# Altium footprint library Capacitor - Electrolytic.PcbLib: 177 footprints (part 2 of 12)
Each footprint in its own frame and in the unit in brackets; x right, y up, seen from the top. Pads: shape width x height; smd on the part's side, far side on the other; paste and mask are expansions set on the pad; w line width, h text height; cw(c..) or ccw(c..) is an arc to the next point about the centre after c.
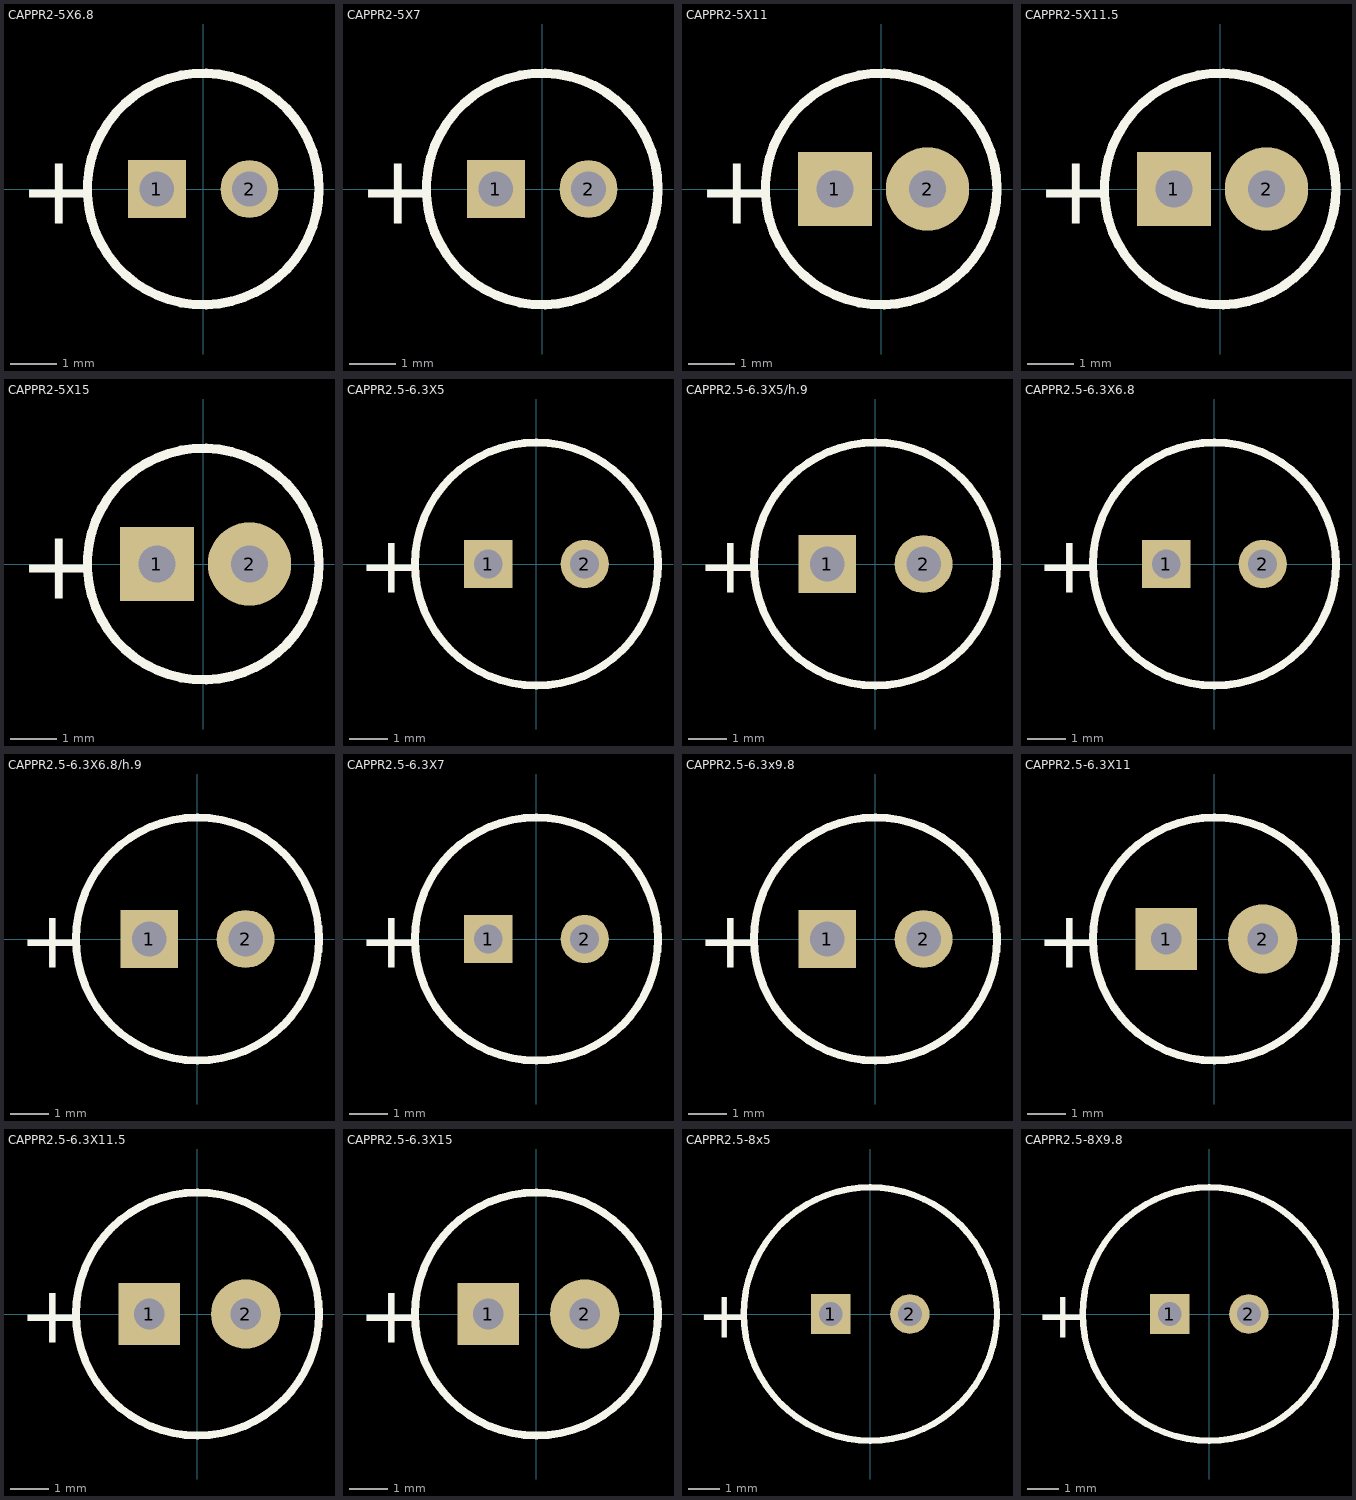
[diagram p1: the footprints below, top view; thin cyan lines are the x and y axes]

## CAPPR2-5X6.8 [mm]
pads (2):
  rect 1.25x1.25 hole 0.75: 1(-1,0)
  round 1.25 hole 0.75: 2(1,0)
Top Overlay:
  circle w0.2: c0,0 r2.5
  text "+" at -3.975,-0.75 h1.5
3D body "CAPR-5x6.8.STEP": height 6.8, standoff -2, extent -2.5,-2.498 2.5,2.499

## CAPPR2-5X7 [mm]
pads (2):
  rect 1.25x1.25 hole 0.75: 1(-1,0)
  round 1.25 hole 0.75: 2(1,0)
Top Overlay:
  circle w0.2: c0,0 r2.5
  text "+" at -3.975,-0.75 h1.5
3D body "CAPR-5x7.STEP": height 7, standoff -2, extent -2.5,-2.498 2.5,2.499

## CAPPR2-5X11 [mm]
pads (2):
  rect 1.6x1.6 hole 0.8: 1(-1,0)
  round 1.8 hole 0.8: 2(1,0)
Top Overlay:
  circle w0.2: c0,0 r2.5
  text "+" at -3.975,-0.75 h1.5
3D body "CAPR-5x11.STEP": height 11, standoff -2, extent -2.5,-2.498 2.5,2.499

## CAPPR2-5X11.5 [mm]
pads (2):
  rect 1.6x1.6 hole 0.8: 1(-1,0)
  round 1.8 hole 0.8: 2(1,0)
Top Overlay:
  circle w0.2: c0,0 r2.5
  text "+" at -3.975,-0.75 h1.5
3D body "CAPR-5x11.5.STEP": height 11.5, standoff -2, extent -2.5,-2.498 2.5,2.499

## CAPPR2-5X15 [mm]
pads (2):
  rect 1.6x1.6 hole 0.8: 1(-1,0)
  round 1.8 hole 0.8: 2(1,0)
Top Overlay:
  circle w0.2: c0,0 r2.5
  text "+" at -3.975,-0.75 h1.5
3D body "CAPR-5x15.STEP": height 15, standoff -2, extent -2.5,-2.498 2.5,2.499

## CAPPR2.5-6.3X5 [mm]
pads (2):
  rect 1.25x1.25 hole 0.75: 1(-1.25,0)
  round 1.25 hole 0.75: 2(1.25,0)
Top Overlay:
  circle w0.2: c0,0 r3.15
  text "+" at -4.625,-0.75 h1.5
3D body "CAPR-2.5-6.3-5.STEP": height 5, standoff -2, extent -3.15,-3.145 3.15,3.145

## CAPPR2.5-6.3X5/h.9 [mm]
pads (2):
  rect 1.5x1.5 hole 0.9: 1(-1.25,0)
  round 1.5 hole 0.9: 2(1.25,0)
Top Overlay:
  circle w0.2: c0,0 r3.15
  text "+" at -4.625,-0.75 h1.5
3D body "CAPR-2.5-6.3-5.STEP": height 1.5, standoff -5.5, extent -3.15,-3.145 3.15,3.145

## CAPPR2.5-6.3X6.8 [mm]
pads (2):
  rect 1.25x1.25 hole 0.75: 1(-1.25,0)
  round 1.25 hole 0.75: 2(1.25,0)
Top Overlay:
  circle w0.2: c0,0 r3.15
  text "+" at -4.625,-0.75 h1.5
3D body "CAPR-2.5-6.3-6.8.STEP": height 1.5, standoff -7.3, extent -3.15,-3.145 3.15,3.145

## CAPPR2.5-6.3X6.8/h.9 [mm]
pads (2):
  rect 1.5x1.5 hole 0.9: 1(-1.25,0)
  round 1.5 hole 0.9: 2(1.25,0)
Top Overlay:
  circle w0.2: c0,0 r3.15
  text "+" at -4.625,-0.75 h1.5
3D body "CAPR-2.5-6.3-6.8.STEP": height 6.8, standoff -2, extent -3.15,-3.145 3.15,3.145

## CAPPR2.5-6.3X7 [mm]
pads (2):
  rect 1.25x1.25 hole 0.75: 1(-1.25,0)
  round 1.25 hole 0.75: 2(1.25,0)
Top Overlay:
  circle w0.2: c0,0 r3.15
  text "+" at -4.625,-0.75 h1.5
3D body "CAPR-2.5-6.3-7.STEP": height 7, standoff -2, extent -3.15,-3.145 3.15,3.145

## CAPPR2.5-6.3x9.8 [mm]
pads (2):
  rect 1.5x1.5 hole 0.9: 1(-1.25,0)
  round 1.5 hole 0.9: 2(1.25,0)
Top Overlay:
  circle w0.2: c0,0 r3.15
  text "+" at -4.625,-0.75 h1.5
3D body "CAPR-2.5-6.3-9.8.STEP": height 9.8, standoff -2, extent -3.15,-3.145 3.15,3.145

## CAPPR2.5-6.3X11 [mm]
pads (2):
  rect 1.6x1.6 hole 0.8: 1(-1.25,0)
  round 1.8 hole 0.8: 2(1.25,0)
Top Overlay:
  circle w0.2: c0,0 r3.15
  text "+" at -4.625,-0.75 h1.5
3D body "CAPR-2.5-6.3-11.STEP": height 11, standoff -2, extent -3.15,-3.145 3.15,3.145

## CAPPR2.5-6.3X11.5 [mm]
pads (2):
  rect 1.6x1.6 hole 0.8: 1(-1.25,0)
  round 1.8 hole 0.8: 2(1.25,0)
Top Overlay:
  circle w0.2: c0,0 r3.15
  text "+" at -4.625,-0.75 h1.5
3D body "CAPR-2.5-6.3-11.5.STEP": height 11.5, standoff -2, extent -3.15,-3.145 3.15,3.145

## CAPPR2.5-6.3X15 [mm]
pads (2):
  rect 1.6x1.6 hole 0.8: 1(-1.25,0)
  round 1.8 hole 0.8: 2(1.25,0)
Top Overlay:
  circle w0.2: c0,0 r3.15
  text "+" at -4.625,-0.75 h1.5
3D body "CAPR-2.5-6.3-15.STEP": height 15, standoff -2, extent -3.15,-3.145 3.15,3.145

## CAPPR2.5-8x5 [mm]
pads (2):
  rect 1.25x1.25 hole 0.75: 1(-1.25,0)
  round 1.25 hole 0.75: 2(1.25,0)
Top Overlay:
  circle w0.2: c0,0 r4
  text "+" at -5.475,-0.75 h1.5
3D body "CAPR-2.5-8-5.STEP": height 5, standoff -2, extent -4,-3.992 4,3.992

## CAPPR2.5-8X9.8 [mm]
pads (2):
  rect 1.25x1.25 hole 0.75: 1(-1.25,0)
  round 1.25 hole 0.75: 2(1.25,0)
Top Overlay:
  circle w0.2: c0,0 r4
  text "+" at -5.475,-0.75 h1.5
3D body "CAPR-2.5-8-9.8.STEP": height 9.8, standoff -2, extent -4,-3.992 4,3.992